# Altium schematic symbol library axsem_passives_v1-6.SCHLIB: 26 symbols
Pins are listed as number, name and electrical type; pins without a type are passive.

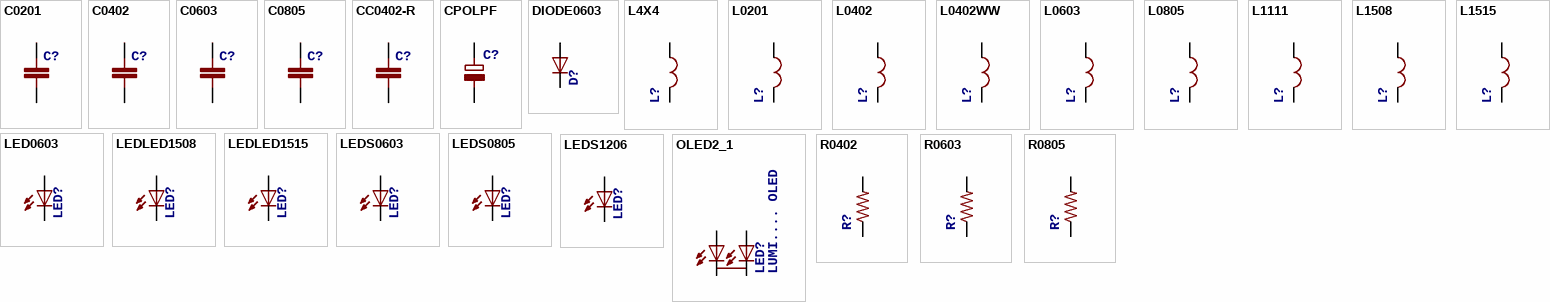
[diagram p0: symbols C0201 to R0805]

## C0201
designator C?
footprint C0201
pins: 1, 2

## C0402
designator C?
footprint C0402
pins: 1, 2

## C0603
designator C?
footprint C0603
pins: 1, 2

## C0805
designator C?
footprint C0805
pins: 1, 2

## CC0402-R
designator C?
footprint R0402
pins: 3 1, 4 2

## CPOLPF
designator C?
footprint PANASONIC_F
pins: +, -

## DIODE0603
designator D?
footprint D0603
pins: A, C

## L4X4
designator L?
footprint L4X4
pins: P$1 1, P$2 2

## L0201
designator L?
footprint L0201
pins: 1, 2

## L0402
designator L?
footprint L0402
pins: 1, 2

## L0402WW
designator L?
footprint L0402WW
pins: 1, 2

## L0603
designator L?
footprint L0603
pins: 1, 2

## L0805
designator L?
footprint L0805
pins: 1, 2

## L1111
designator L?
footprint L1111
pins: 1, 2

## L1508
designator L?
footprint L1508
pins: 1, 2

## L1515
designator L?
footprint L1515
pins: 1, 2

## LED0603
designator LED?
footprint LED0603
pins: A, C

## LEDLED1508
designator LED?
footprint LED1508
pins: 1 A, 2 C

## LEDLED1515
designator LED?
footprint LED1515
pins: 1 A, 2 C

## LEDS0603
designator LED?
footprint SML0603
pins: A, C

## LEDS0805
designator LED?
footprint SML0805
pins: A, C

## LEDS1206
designator LED?
footprint SML1206
pins: A, C

## OLED2_1
designator LED?, comment LUMI.... OLED
footprint OLED5330
pins: 1A, 1B, 2, 3

## R0402
designator R?
footprint R0402
pins: 3 1, 4 2

## R0603
designator R?
footprint R0603
pins: 1, 2

## R0805
designator R?
footprint R0805
pins: 1, 2